# EAGLE library part UBLOX-MAX (library custom-ds)
UBlox MAX-series of GPS receiver engines.
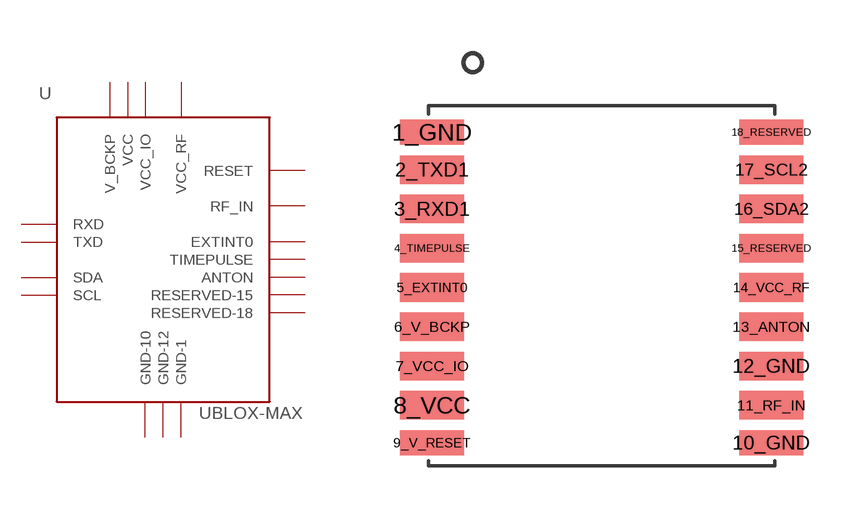
[diagram p7: symbol with the pads of UBLOX-MAX; footprint UBLOX-MAX]

Designator prefix U

## UBLOX-MAX  [UBLOX-MAX]
1_GND  GND-1  pwr
2_TXD1  TXD
3_RXD1  RXD
4_TIMEPULSE  TIMEPULSE
5_EXTINT0  EXTINT0
6_V_BCKP  V_BCKP
7_VCC_IO  VCC_IO  pwr
8_VCC  VCC  pwr
9_V_RESET  RESET  pwr
10_GND  GND-10  pwr
11_RF_IN  RF_IN
12_GND  GND-12  pwr
13_ANTON  ANTON
14_VCC_RF  VCC_RF
15_RESERVED  RESERVED-15
16_SDA2  SDA
17_SCL2  SCL
18_RESERVED  RESERVED-18

## Footprint UBLOX-MAX (pad centres in mm)
smd 1.8 x 0.7: 1_GND -4.95,4.4; 9_V_RESET -4.95,-4.3; 10_GND 4.55,-4.3; 18_RESERVED 4.55,4.4
smd 1.8 x 0.8: 2_TXD1 -4.95,3.35; 3_RXD1 -4.95,2.25; 4_TIMEPULSE -4.95,1.15; 5_EXTINT0 -4.95,0.05; 6_V_BCKP -4.95,-1.05; 7_VCC_IO -4.95,-2.15; 8_VCC -4.95,-3.25; 11_RF_IN 4.55,-3.25; 12_GND 4.55,-2.15; 13_ANTON 4.55,-1.05; 14_VCC_RF 4.55,0.05; 15_RESERVED 4.55,1.15; 16_SDA2 4.55,2.25; 17_SCL2 4.55,3.35